# Altium schematic symbol library ESP32.SchLib: 1 symbol
Pins are listed as number, name and electrical type; pins without a type are passive.

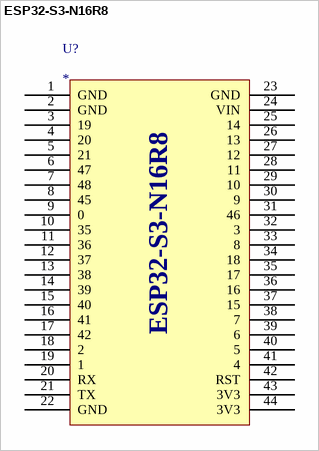
[diagram p0: symbol ESP32-S3-N16R8]

## ESP32-S3-N16R8
designator U?
footprint DIP44
pins: 1 GND, 2 GND, 3 19, 4 20, 5 21, 6 47, 7 48, 8 45, 9 0, 10 35, 11 36, 12 37, 13 38, 14 39, 15 40, 16 41, 17 42, 18 2, 19 1, 20 RX, 21 TX, 22 GND, 23 GND, 24 VIN, 25 14, 26 13, 27 12, 28 11, 29 10, 30 9, 31 46, 32 3, 33 8, 34 18, 35 17, 36 16, 37 15, 38 7, 39 6, 40 5, 41 4, 42 RST, 43 3V3, 44 3V3